# EAGLE library part NRF24AP2 (library talons-microcontrollers)
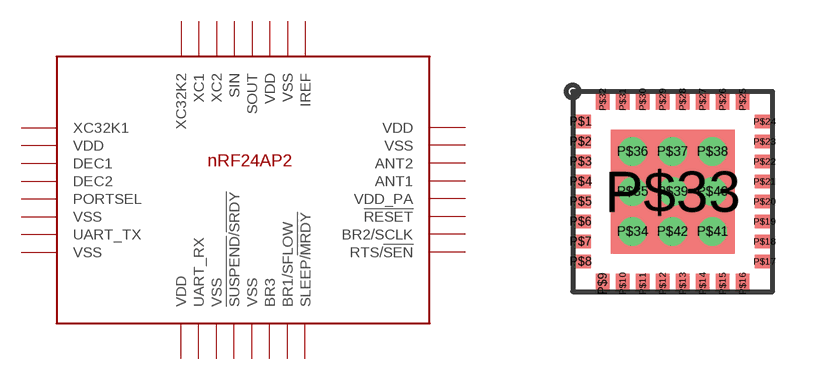
[diagram p2: symbol with the pads of NRF24AP2; footprint NRF24AP2]

Designator prefix -

## NRF24AP2  [NRF24AP2]
P$1  XC32K1  in
P$2  VDD  pwr
P$3  DEC1  pwr
P$4  DEC2  pwr
P$5  PORTSEL  in
P$6  VSS  pwr
P$7  UART_TX
P$8  VSS  pwr
P$9  VDD  pwr
P$10  UART_RX  in
P$11  VSS  pwr
P$12  !SUSPEND!/!SRDY!  in
P$13  VSS  pwr
P$14  BR3  in
P$15  BR1/SFLOW  in
P$16  SLEEP/!MRDY  in
P$17  RTS/!SEN  out
P$18  BR2/SCLK
P$19  !RESET  in
P$20  VDD_PA  pwr
P$21  ANT1
P$22  ANT2
P$23  VSS  pwr
P$24  VDD  pwr
P$25  IREF  out
P$26  VSS  pwr
P$27  VDD  pwr
P$28  SOUT
P$29  SIN  in
P$30  XC2  out
P$31  XC1  in
P$32  XC32K2  out
P$33  VSS  pwr
P$34  VSS  pwr
P$35  VSS  pwr
P$36  VSS  pwr
P$37  VSS  pwr
P$38  VSS  pwr
P$39  VSS  pwr
P$40  VSS  pwr
P$41  VSS  pwr
P$42  VSS  pwr

## Footprint NRF24AP2 (pad centres in mm)
smd 0.5 x 0.33: P$1 -2.3,1.75; P$2 -2.3,1.25; P$3 -2.3,0.75; P$4 -2.3,0.25; P$5 -2.3,-0.25; P$6 -2.3,-0.75; P$7 -2.3,-1.25; P$8 -2.3,-1.75; P$17 2.3,-1.75; P$18 2.3,-1.25; P$19 2.3,-0.75; P$20 2.3,-0.25; P$21 2.3,0.25; P$22 2.3,0.75; P$23 2.3,1.25; P$24 2.3,1.75
smd 0.33 x 0.5: P$9 -1.75,-2.3; P$10 -1.25,-2.3; P$11 -0.75,-2.3; P$12 -0.25,-2.3; P$13 0.25,-2.3; P$14 0.75,-2.3; P$15 1.25,-2.3; P$16 1.75,-2.3; P$25 1.75,2.3; P$26 1.25,2.3; P$27 0.75,2.3; P$28 0.25,2.3; P$29 -0.25,2.3; P$30 -0.75,2.3; P$31 -1.25,2.3; P$32 -1.75,2.3
smd 3.1 x 3.1: P$33 0,0
drill 0.2: P$34 -1,-1; P$35 -1,0; P$36 -1,1; P$37 0,1; P$38 1,1; P$39 0,0; P$40 1,0; P$41 1,-1; P$42 0,-1